# Altium schematic symbol library USB_mini_b.SchLib: 1 symbol
Pins are listed as number, name and electrical type; pins without a type are passive.

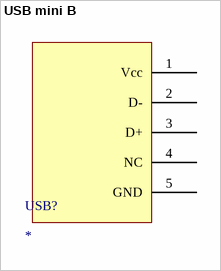
[diagram p0: symbol USB mini B]

## USB mini B
designator USB?
USB mini B
footprint USB/SM0.8-4H5 (Connector; USB Mini-B, Sinking Type, SM; 5 Position; Right Angle)
pins: 1 Vcc, 2 D-, 3 D+, 4 NC, 5 GND